# Altium schematic symbol library LCR的原理图库封装.SchLib: 42 symbols
Pins are listed as number, name and electrical type; pins without a type are passive.

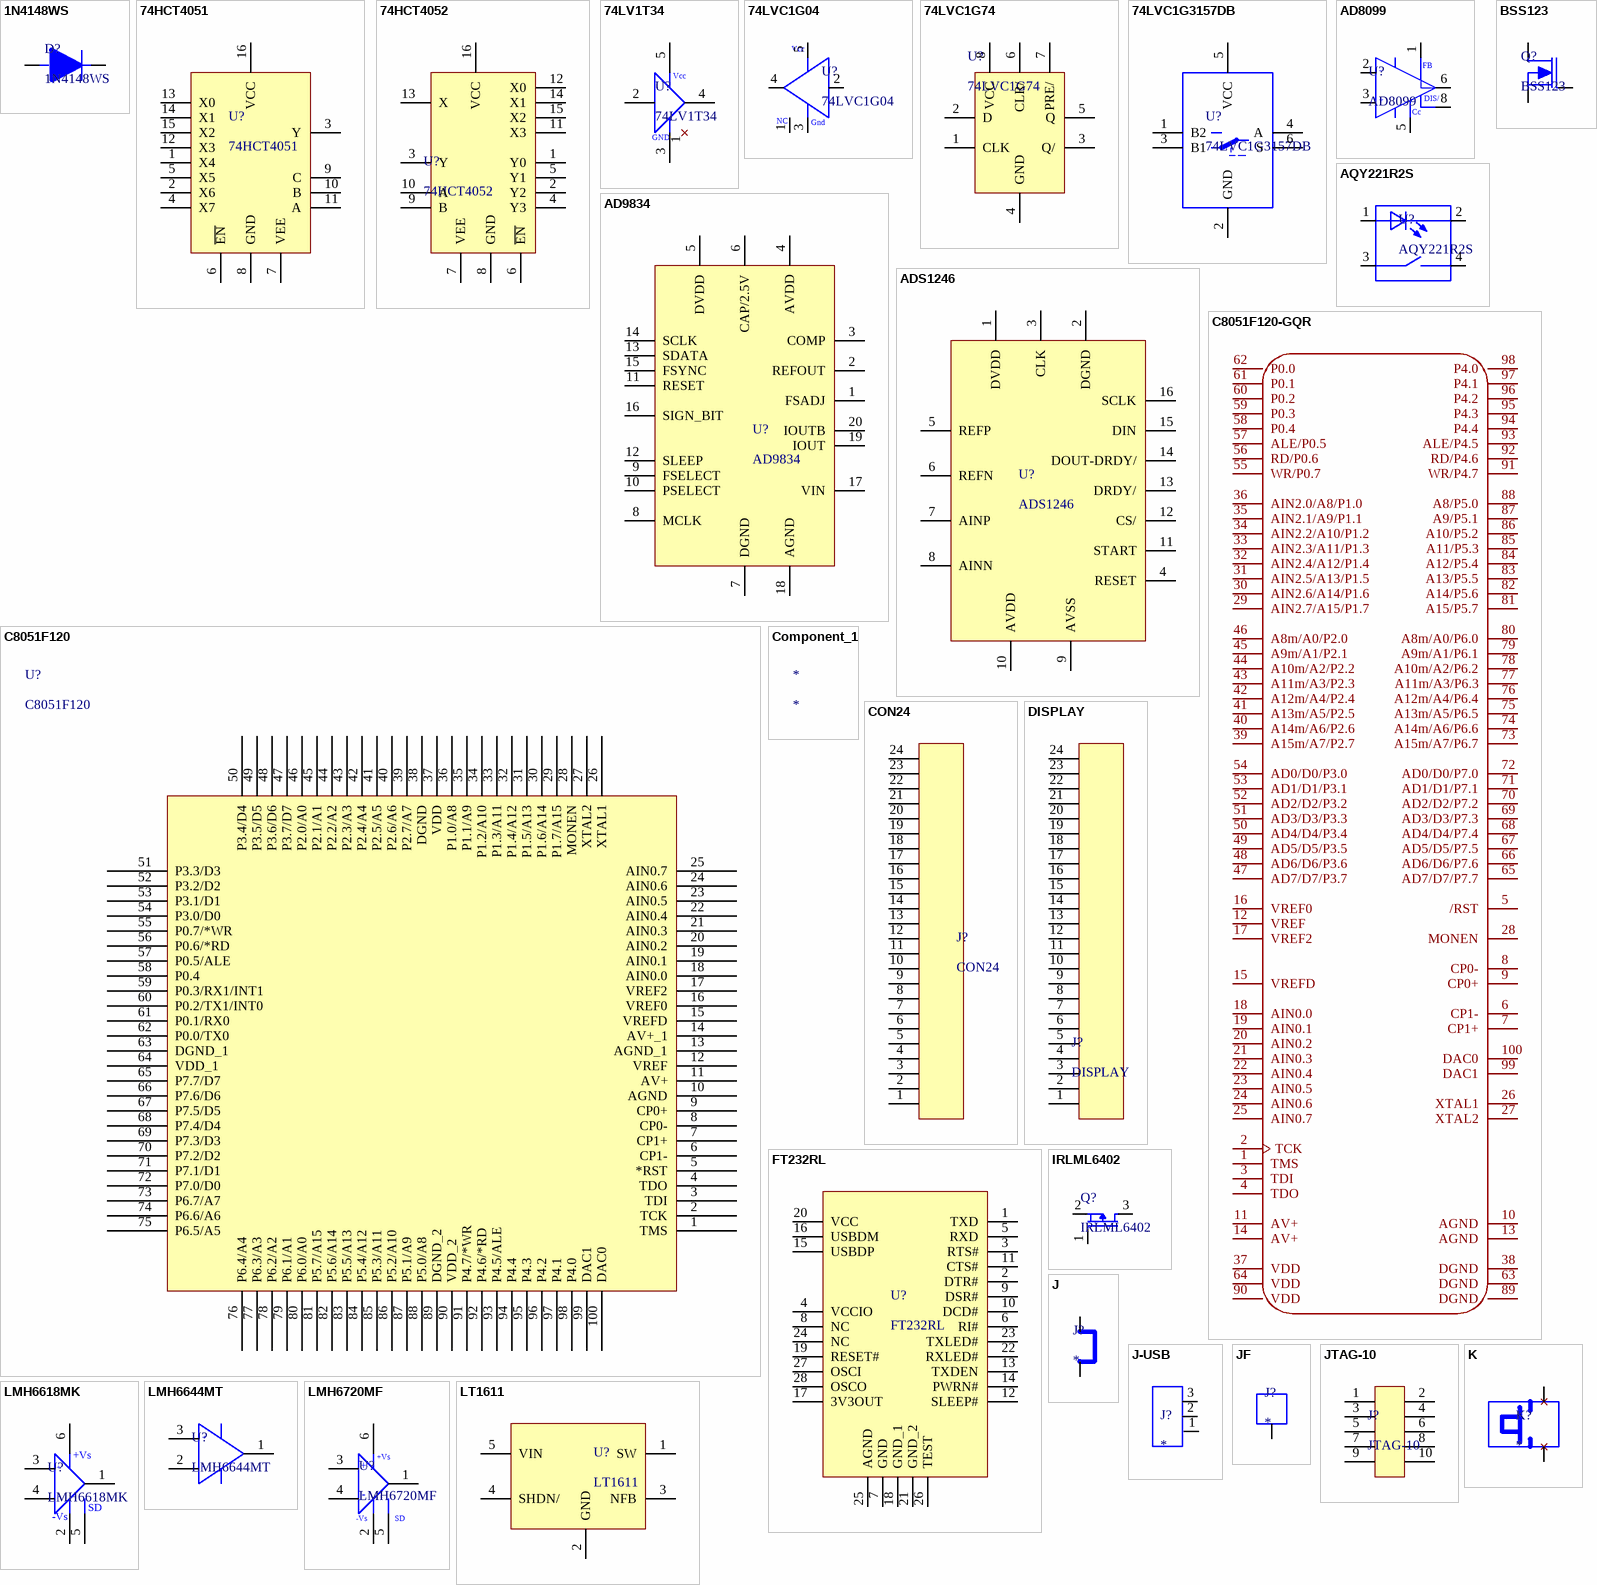
[diagram p0: symbols 1N4148WS to LT1611]

## 1N4148WS
designator D?
pins: 1, 2

## 74HCT4051
designator U?
pins: 1 X4, 2 X6, 3 Y, 4 X7, 5 X5, 6 ~{EN}, 7 VEE, 8 GND, 9 C, 10 B, 11 A, 12 X3, 13 X0, 14 X1, 15 X2, 16 VCC

## 74HCT4052
designator U?
pins: 1 Y0, 2 Y2, 3 Y, 4 Y3, 5 Y1, 6 ~{EN}, 7 VEE, 8 GND, 9 B, 10 A, 11 X3, 12 X0, 13 X, 14 X1, 15 X2, 16 VCC

## 74LV1T34
designator U?
pins: 1, 2, 3, 4, 5
text: Vcc; GND

## 74LVC1G04
designator U?
pins: 1, 2, 3, 4, 5
text: Vcc; NC; Gnd

## 74LVC1G74
designator U?
pins: 1 CLK, 2 D, 3 Q/, 4 GND, 5 Q, 6 CLR/, 7 PRE/, 8 VCC

## 74LVC1G3157DB
designator U?
pins: 1 B2, 2 GND, 3 B1, 4 A, 5 VCC, 6 S

## AD8099
designator U?
pins: 1, 2, 3, 5, 6, 8
text: -; FB; +; DIS/; Cc

## AD9834
designator U?
pins: 1 FSADJ, 2 REFOUT, 3 COMP, 4 AVDD, 5 DVDD, 6 CAP/2.5V, 7 DGND, 8 MCLK, 9 FSELECT, 10 PSELECT, 11 RESET, 12 SLEEP, 13 SDATA, 14 SCLK, 15 FSYNC, 16 SIGN_BIT, 17 VIN, 18 AGND, 19 IOUT, 20 IOUTB

## ADS1246
designator U?
pins: 1 DVDD, 2 DGND, 3 CLK, 4 RESET, 5 REFP, 6 REFN, 7 AINP, 8 AINN, 9 AVSS, 10 AVDD, 11 START, 12 CS/, 13 DRDY/, 14 DOUT-DRDY/, 15 DIN, 16 SCLK

## AQY221R2S
designator U?
pins: 1, 2, 3, 4

## BSS123
designator Q?
pins: 1, 2, 3

## C8051F120
designator U?
CPU
pins: 1 TMS, 2 TCK, 3 TDI, 4 TDO, 5 *RST, 6 CP1-, 7 CP1+, 8 CP0-, 9 CP0+, 10 AGND, 11 AV+, 12 VREF, 13 AGND_1, 14 AV+_1, 15 VREFD, 16 VREF0, 17 VREF2, 18 AIN0.0, 19 AIN0.1, 20 AIN0.2, 21 AIN0.3, 22 AIN0.4, 23 AIN0.5, 24 AIN0.6, 25 AIN0.7, 26 XTAL1, 27 XTAL2, 28 MONEN, 29 P1.7/A15, 30 P1.6/A14, 31 P1.5/A13, 32 P1.4/A12, 33 P1.3/A11, 34 P1.2/A10, 35 P1.1/A9, 36 P1.0/A8, 37 VDD, 38 DGND, 39 P2.7/A7, 40 P2.6/A6, 41 P2.5/A5, 42 P2.4/A4, 43 P2.3/A3, 44 P2.2/A2, 45 P2.1/A1, 46 P2.0/A0, 47 P3.7/D7, 48 P3.6/D6, 49 P3.5/D5, 50 P3.4/D4, 51 P3.3/D3, 52 P3.2/D2, 53 P3.1/D1, 54 P3.0/D0, 55 P0.7/*WR, 56 P0.6/*RD, 57 P0.5/ALE, 58 P0.4, 59 P0.3/RX1/INT1, 60 P0.2/TX1/INT0, 61 P0.1/RX0, 62 P0.0/TX0, 63 DGND_1, 64 VDD_1, 65 P7.7/D7, 66 P7.6/D6, 67 P7.5/D5, 68 P7.4/D4, 69 P7.3/D3, 70 P7.2/D2, 71 P7.1/D1, 72 P7.0/D0, 73 P6.7/A7, 74 P6.6/A6, 75 P6.5/A5, 76 P6.4/A4, 77 P6.3/A3, 78 P6.2/A2, 79 P6.1/A1, 80 P6.0/A0, 81 P5.7/A15, 82 P5.6/A14, 83 P5.5/A13, 84 P5.4/A12, 85 P5.3/A11, 86 P5.2/A10, 87 P5.1/A9, 88 P5.0/A8, 89 DGND_2, 90 VDD_2, 91 P4.7/*WR, 92 P4.6/*RD, 93 P4.5/ALE, 94 P4.4, 95 P4.3, 96 P4.2, 97 P4.1, 98 P4.0, 99 DAC1, 100 DAC0

## C8051F120-GQR
designator U?  (value not drawn)
Symbol: C8051F120-GQR
pins: 1 TMS, 2 TCK, 3 TDI, 4 TDO, 5 /RST, 6 CP1-, 7 CP1+, 8 CP0-, 9 CP0+, 10 AGND, 11 AV+, 12 VREF, 13 AGND, 14 AV+, 15 VREFD, 16 VREF0, 17 VREF2, 18 AIN0.0, 19 AIN0.1, 20 AIN0.2, 21 AIN0.3, 22 AIN0.4, 23 AIN0.5, 24 AIN0.6, 25 AIN0.7, 26 XTAL1, 27 XTAL2, 28 MONEN, 29 AIN2.7/A15/P1.7, 30 AIN2.6/A14/P1.6, 31 AIN2.5/A13/P1.5, 32 AIN2.4/A12/P1.4, 33 AIN2.3/A11/P1.3, 34 AIN2.2/A10/P1.2, 35 AIN2.1/A9/P1.1, 36 AIN2.0/A8/P1.0, 37 VDD, 38 DGND, 39 A15m/A7/P2.7, 40 A14m/A6/P2.6, 41 A13m/A5/P2.5, 42 A12m/A4/P2.4, 43 A11m/A3/P2.3, 44 A10m/A2/P2.2, 45 A9m/A1/P2.1, 46 A8m/A0/P2.0, 47 AD7/D7/P3.7, 48 AD6/D6/P3.6, 49 AD5/D5/P3.5, 50 AD4/D4/P3.4, 51 AD3/D3/P3.3, 52 AD2/D2/P3.2, 53 AD1/D1/P3.1, 54 AD0/D0/P3.0, 55 WR/P0.7, 56 RD/P0.6, 57 ALE/P0.5, 58 P0.4, 59 P0.3, 60 P0.2, 61 P0.1, 62 P0.0, 63 DGND, 64 VDD, 65 AD7/D7/P7.7, 66 AD6/D6/P7.6, 67 AD5/D5/P7.5, 68 AD4/D4/P7.4, 69 AD3/D3/P7.3, 70 AD2/D2/P7.2, 71 AD1/D1/P7.1, 72 AD0/D0/P7.0, 73 A15m/A7/P6.7, 74 A14m/A6/P6.6, 75 A13m/A5/P6.5, 76 A12m/A4/P6.4, 77 A11m/A3/P6.3, 78 A10m/A2/P6.2, 79 A9m/A1/P6.1, 80 A8m/A0/P6.0, 81 A15/P5.7, 82 A14/P5.6, 83 A13/P5.5, 84 A12/P5.4, 85 A11/P5.3, 86 A10/P5.2, 87 A9/P5.1, 88 A8/P5.0, 89 DGND, 90 VDD, 91 WR/P4.7, 92 RD/P4.6, 93 ALE/P4.5, 94 P4.4, 95 P4.3, 96 P4.2, 97 P4.1, 98 P4.0, 99 DAC1, 100 DAC0

## Component_1
designator *

## CON24
designator J?
pins: 1, 2, 3, 4, 5, 6, 7, 8, 9, 10, 11, 12, 13, 14, 15, 16, 17, 18, 19, 20, 21, 22, 23, 24

## DISPLAY
designator J?
pins: 1, 2, 3, 4, 5, 6, 7, 8, 9, 10, 11, 12, 13, 14, 15, 16, 17, 18, 19, 20, 21, 22, 23, 24

## FT232RL
designator U?
pins: 1 TXD, 2 DTR#, 3 RTS#, 4 VCCIO, 5 RXD, 6 RI#, 7 GND, 8 NC, 9 DSR#, 10 DCD#, 11 CTS#, 12 SLEEP#, 13 TXDEN, 14 PWRN#, 15 USBDP, 16 USBDM, 17 3V3OUT, 18 GND_1, 19 RESET#, 20 VCC, 21 GND_2, 22 RXLED#, 23 TXLED#, 24 NC, 25 AGND, 26 TEST, 27 OSCI, 28 OSCO

## IRLML6402
designator Q?
pins: 1, 2, 3

## J
designator J?
连接线  J
pins: 1, 2

## J-USB
designator J?
pins: 1, 2, 3

## JF
designator J?
pins: 1

## JTAG-10
designator J?
pins: 1, 2, 3, 4, 5, 6, 7, 8, 9, 10

## K
designator K?
RESET按键
pins: 1, 2

## LMH6618MK
designator U?
pins: 1, 2, 3, 4, 5, 6
text: +Vs; +; -; SD; -Vs

## LMH6644MT
designator U?
pins: 1, 2, 3
text: +; -

## LMH6720MF
designator U?
pins: 1, 2, 3, 4, 5, 6
text: +Vs; +; -; -Vs; SD

## LT1611
designator U?
pins: 1 SW, 2 GND, 3 NFB, 4 SHDN/, 5 VIN

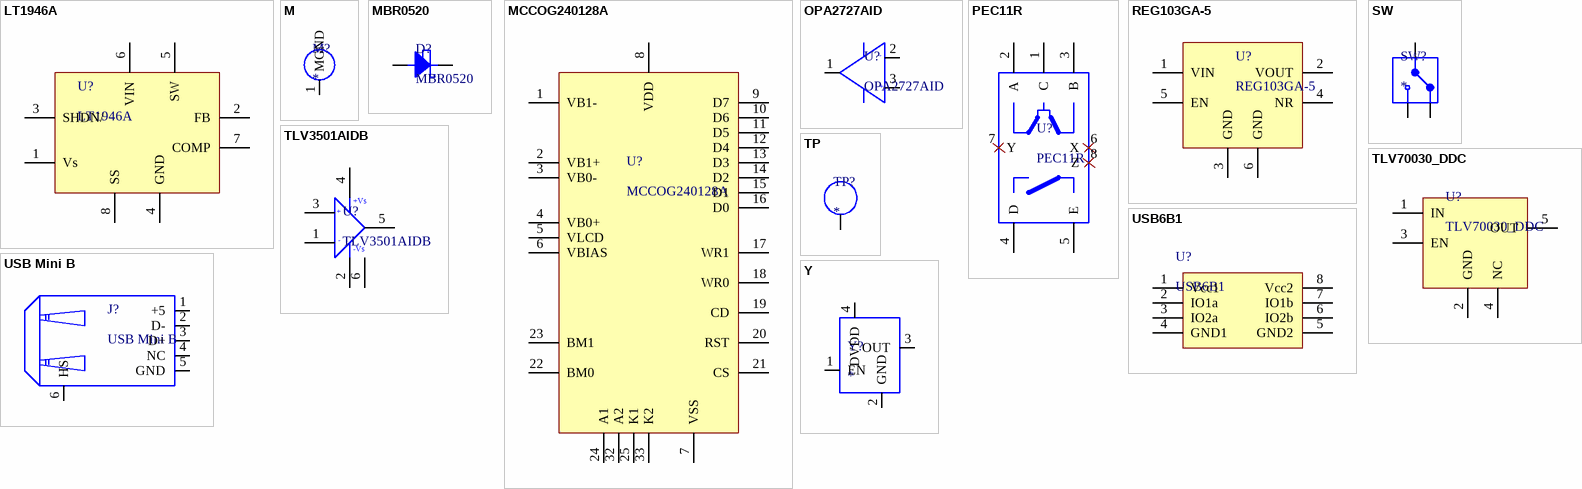
[diagram p1: symbols LT1946A to Y]

## LT1946A
designator U?
pins: 1 Vs, 2 FB, 3 SHDN/, 4 GND, 5 SW, 6 VIN, 7 COMP, 8 SS

## M
designator M?
pins: 1 MGND

## MBR0520
designator D?
pins: 1, 2

## MCCOG240128A
designator U?
pins: 1 VB1-, 2 VB1+, 3 VB0-, 4 VB0+, 5 VLCD, 6 VBIAS, 7 VSS, 8 VDD, 9 D7, 10 D6, 11 D5, 12 D4, 13 D3, 14 D2, 15 D1, 16 D0, 17 WR1, 18 WR0, 19 CD, 20 RST, 21 CS, 22 BM0, 23 BM1, 24 A1, 25 K1, 32 A2, 33 K2

## OPA2727AID
designator U?
pins: 1, 2, 3
text: -; +

## PEC11R
designator U?
pins: 1 C, 2 A, 3 B, 4 D, 5 E, 6 X, 7 Y, 8 Z

## REG103GA-5
designator U?
pins: 1 VIN, 2 VOUT, 3 GND, 4 NR, 5 EN, 6 GND

## SW
designator SW?
pins: 0, 1, 1, 2, 3

## TLV3501AIDB
designator U?
pins: 1, 2, 3, 4, 5, 6
text: +Vs; +; -; -Vs

## TLV70030_DDC
designator U?
pins: 1 IN, 2 GND, 3 EN, 4 NC, 5 OUT

## TP
designator TP?
pins: 1

## USB6B1
designator U?
pins: 1 Vcc1, 2 IO1a, 3 IO2a, 4 GND1, 5 GND2, 6 IO2b, 7 IO1b, 8 Vcc2

## USB Mini B
designator J?
USB接口
pins: 1 +5, 2 D-, 3 D+, 4 NC, 5 GND, 6 HS

## Y
designator Y?
pins: 1 EN, 2 GND, 3 OUT, 4 DVDD